# Altium integrated library telcom.IntLib: 1 symbol
Pins are listed as number, name and electrical type; pins without a type are passive.

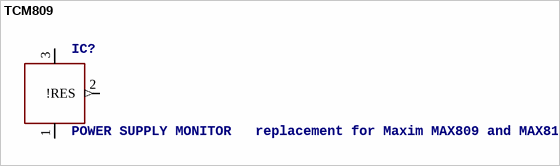
[diagram p0: symbol TCM809]

## TCM809
designator IC?, comment POWER SUPPLY MONITOR   replacement for Maxim MAX809 and MAX810
MPN: TCM809MENB713; MF: MICROCHIP; OC_FARNELL: 9762744; OC_NEWARK: 96K3998
footprint SOT23B-3
pins: 1 GND (power), 2 !RES (out), 3 VCC (power)